# EAGLE library part MCP4728T-E/UN (library MCP4728T-E_UN)
IC, DAC, 12BIT, QUAD
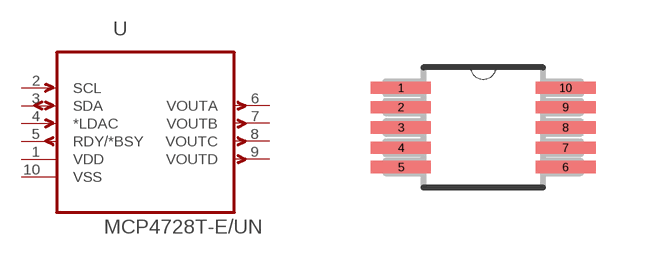
[diagram p0: symbol with the pads of SOP50P490X110-10N; footprint SOP50P490X110-10N]

Designator prefix U

## MCP4728T-E/UN (MPN: MCP4728T-E/UN; OC_FARNELL: 1800217; OC_NEWARK: 08R1808; PACKAGE: MSOP-10; SUPPLIER: MICROCHIP)  [SOP50P490X110-10N]
1  VDD  pwr
2  SCL  in
3  SDA
4  *LDAC  in
5  RDY/*BSY  out
6  VOUTA  out
7  VOUTB  out
8  VOUTC  out
9  VOUTD  out
10  VSS  pwr

## Footprint SOP50P490X110-10N (pad centres in mm)
smd 1.499 x 0.305: 1 -2.057,0.991; 2 -2.057,0.508; 3 -2.057,0; 4 -2.057,-0.508; 5 -2.057,-0.991; 6 2.057,-0.991; 7 2.057,-0.508; 8 2.057,0; 9 2.057,0.508; 10 2.057,0.991